# Altium footprint library led.PcbLib: 35 footprints (part 2 of 3)
Each footprint in its own frame and in the unit in brackets; x right, y up, seen from the top. Pads: shape width x height; smd on the part's side, far side on the other; paste and mask are expansions set on the pad; w line width, h text height; cw(c..) or ccw(c..) is an arc to the next point about the centre after c.
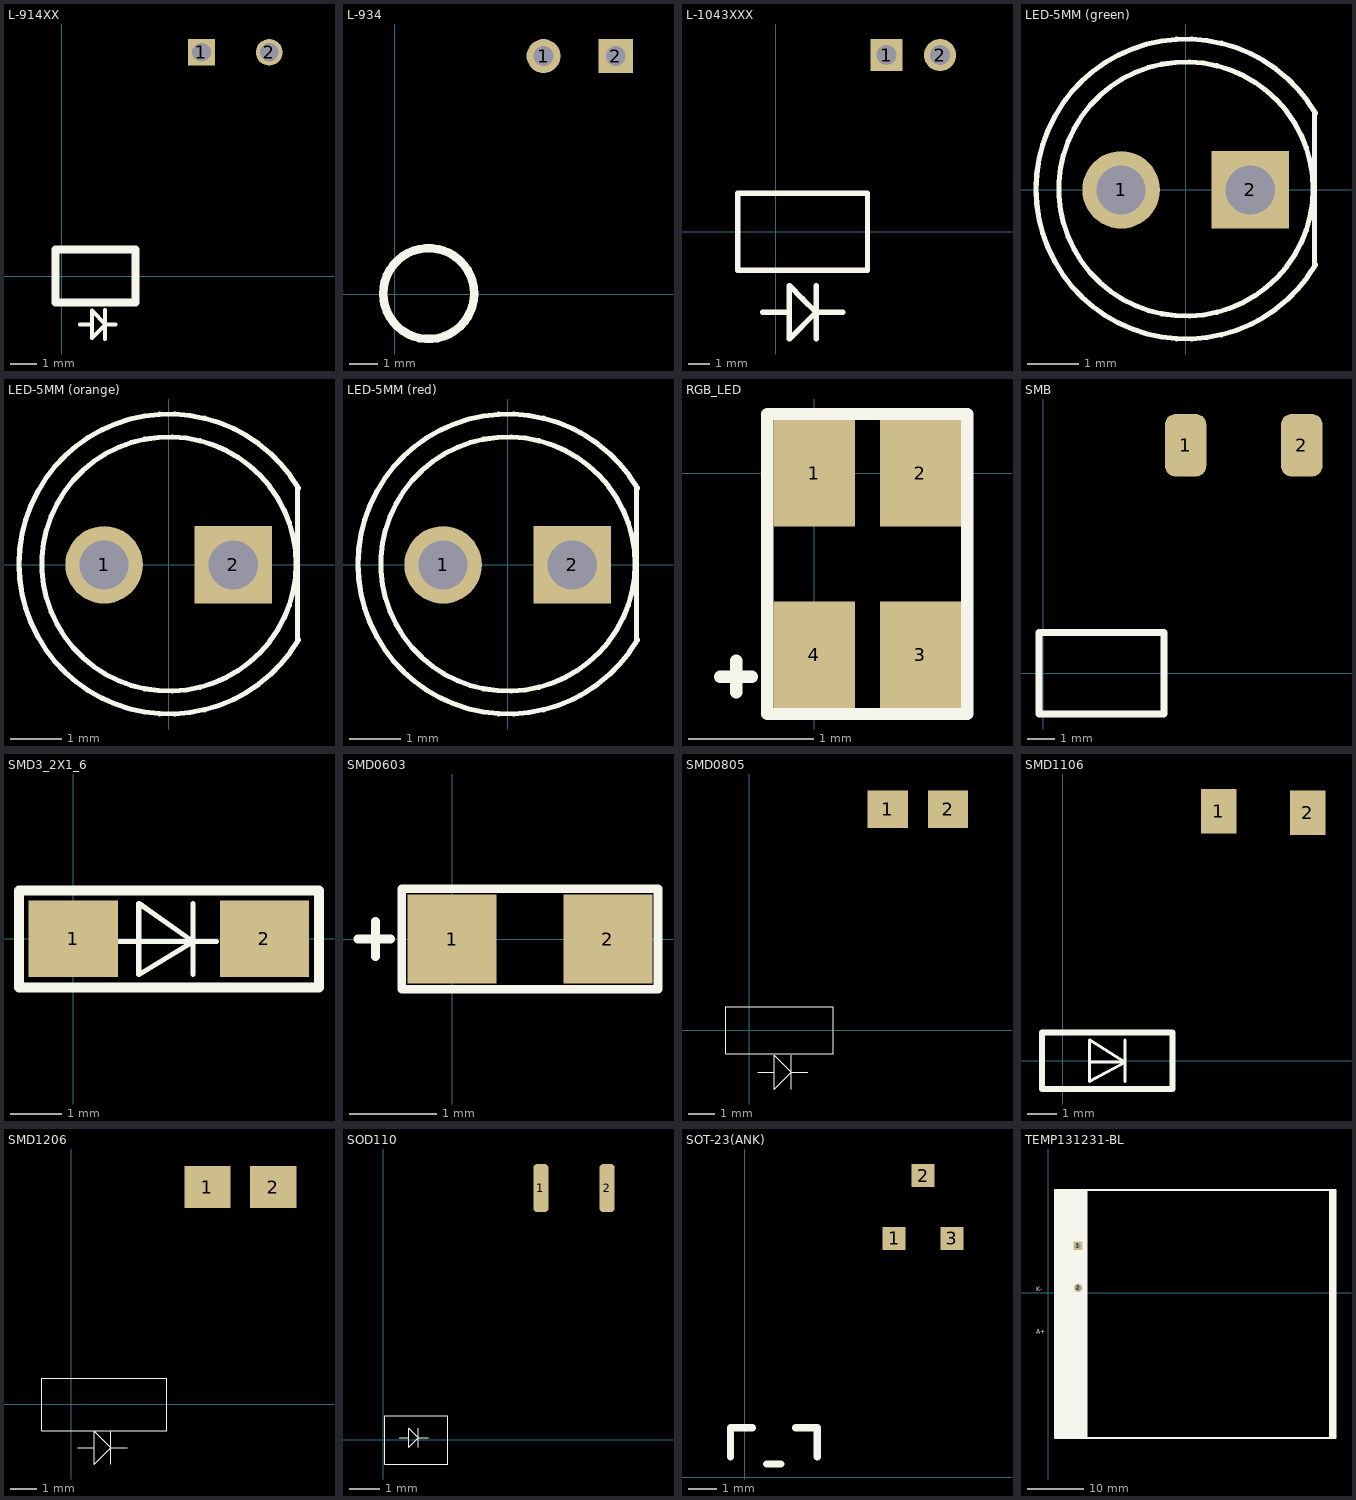
[diagram p1: the footprints below, top view; thin cyan lines are the x and y axes]

## L-914XX [mm]
pads (2):
  rect 1x1 hole 0.7: 1(5.244,8.384)
  round 1 hole 0.7: 2(7.784,8.384)
Top Overlay:
  lines w0.15: 0.69,-1.81 1.14,-1.81 ; 1.62,-2.36 1.62,-1.28 ; 2.02,-1.82 1.645,-1.82 ; 1.14,-1.81 1.14,-1.3 1.645,-1.82 ; 1.14,-1.81 1.14,-2.32 1.645,-1.82
  lines w0.3: 1.27,-1 2.77,-1 ; 2.77,-1 2.77,1 -0.23,1 -0.23,-1 2.77,-1

## L-934 [mm]
height 0.132
pads (2):
  round 1.2 hole 0.7: 1(5.244,8.384)
  rect 1.2x1.2 hole 0.7: 2(7.784,8.384)
Top Overlay:
  circle w0.3: c1.2,0.025 r1.6
3D body "LED-3mm_L-934NT_orange.SLDPRT": height 5.4, standoff -1.7, extent -0.31,-1.629 2.89,1.569

## L-1043XXX [mil]
pads (2):
  rect 60x60 hole 38: 1(206.44,330.06)
  round 60 hole 38: 2(306.44,330.06)
Top Overlay:
  lines w10: -25,-150 25,-150 ; 75,-200 75,-100 ; 125,-150 75,-150 ; 25,-150 25,-100 50,-125 75,-150 ; 25,-150 25,-200 75,-150 ; -71.06,-71.85 -71.06,71.85 171.06,71.85 171.06,-71.85 -71.06,-71.85

## LED-5MM (green) [mil]
pads (2):
  round 60 hole 38: 1(-50,0)
  rect 60x60 hole 38: 2(50,0)
Top Overlay:
  circle w3.94: c0.25,0.65 r98.43
  lines w3.94: 99.86,-58.41 99.86,59.7 ; 100.63,-57.78 cw(c0.25,0.65) 100.63,59.07
3D body "SW3dPS-LEDd5G(Green).STEP": height 484.51, standoff -97.93, extent -117.31,-118.49 96.08,118.5

## LED-5MM (orange) [mil]
pads (2):
  round 60 hole 38: 1(-50,0)
  rect 60x60 hole 38: 2(50,0)
Top Overlay:
  circle w3.94: c0.25,0.65 r98.43
  lines w3.94: 99.86,-58.41 99.86,59.7 ; 100.63,-57.78 cw(c0.25,0.65) 100.63,59.07
3D body "SW3dPS-LEDd5O(Orange).STEP": height 484.51, standoff -97.93, extent -117.31,-118.49 96.08,118.5

## LED-5MM (red) [mil]
pads (2):
  round 60 hole 38: 1(-50,0)
  rect 60x60 hole 38: 2(50,0)
Top Overlay:
  circle w3.94: c0.25,0.65 r98.43
  lines w3.94: 99.86,-58.41 99.86,59.7 ; 100.63,-57.78 cw(c0.25,0.65) 100.63,59.07
3D body "SW3dPS-LEDd5R(Red).STEP": height 484.51, standoff -97.93, extent -117.31,-118.49 96.08,118.5

## RGB_LED [mm]
pads (4):
  rect 0.65x0.85 smd: 1(0,0) 2(0.85,0) 3(0.85,-1.45) 4(0,-1.45)
Top Overlay:
  lines w0.1: -0.75,-1.625 -0.5,-1.625 ; -0.625,-1.75 -0.625,-1.5 ; -0.375,-1.925 -0.375,0.475 1.225,0.475 1.225,-1.925 -0.375,-1.925
3D body "LTST-C19HE1WT.STEP": height 0.34, standoff -0.01, extent -0.325,-1.525 1.175,0.075

## SMB [mm]
pads (2):
  rrect50% 1.52x2.3 smd: 1(5.244,8.384) 2(9.514,8.384)
Top Overlay:
  lines w0.254: -0.15,-1.5 4.45,-1.5 4.45,1.5 -0.15,1.5 -0.15,-1.5

## SMD3_2X1_6 [mm]
pads (2):
  rect 1.75x1.5 smd: 1(0,0) 2(3.75,0)
Top Overlay:
  lines w0.1: 0.906,-0.054 2.806,-0.054 ; 2.346,-0.704 2.346,0.696 ; 1.286,-0.704 1.286,0.696 2.346,-0.054 1.286,-0.704
  lines w0.2: 4.796,-0.954 -1.064,-0.954 -1.064,0.946 4.796,0.946 ; 4.821,-0.954 4.821,-0.479 4.821,0.471 4.821,0.946
3D body "User Library-LED_KPTD-3216 Green.step": height 1.8, standoff 0, extent 0.275,-0.8 3.475,0.8

## SMD0603 [mil]
pads (2):
  rect 40x40 smd: 1(0,0) 2(70,0)
Top Overlay:
  lines w3.94: -42.32,0 -27.56,0 ; -34.45,-7.87 -34.45,7.87 ; -22.64,-22.64 92.52,-22.64 92.52,22.64 -22.64,22.64 -22.64,-22.64
3D body "User Library-LED_0603_WS.STEP": height 23.62, standoff -0.08, extent 2.95,-15.75 65.95,15.74

## SMD0805 [mil]
pads (2):
  rect 60x56 smd: 1(206.44,330.06) 2(296.44,330.06)
Top Overlay:
  lines w0.98: 12.5,-62.5 37.5,-62.5 ; 37.5,-87.5 37.5,-37.5
  lines w1: 37.5,-87.5 62.5,-62.5 ; 37.5,-37.5 62.5,-62.5 ; 62.5,-87.5 62.5,-37.5 ; 87.5,-62.5 62.5,-62.5 ; -35,-35 -35,30 -35,35 125,35 125,-30 125,-35 -35,-35

## SMD1106 [mm]
pads (2):
  rect 1.2x1.5 smd: 1(5.244,8.384) 2(8.244,8.334)
Top Overlay:
  lines w0.1: 0.9,-0.05 2.1,-0.05 ; 2.1,-0.7 2.1,0.7 ; 2.1,-0.05 0.9,-0.7 0.9,0.7 2.1,-0.05
  lines w0.2: -0.7,-0.95 -0.7,0.95 3.7,0.95 3.7,-0.95 -0.7,-0.95

## SMD1206 [mil]
pads (2):
  rect 70x64 smd: 1(206.44,330.06) 2(306.44,330.06)
Top Overlay:
  lines w0.98: 9.59,-65.45 34.59,-65.45 ; 34.59,-90.45 34.59,-40.45
  lines w1: 34.59,-90.45 59.59,-65.45 ; 34.59,-40.45 59.59,-65.45 ; 59.59,-90.45 59.59,-40.45 ; 84.59,-65.45 59.59,-65.45 ; -45,-40 -45,40 145,40 145,-40 -45,-40

## SOD110 [mm]
pads (2):
  rrect50% 0.5x1.6 smd: 1(5.244,8.384) 2(7.444,8.384)
Top Overlay:
  lines w0.025: 0.534,0.068 0.851,0.068 ; 1.168,-0.249 1.168,0.385 ; 1.485,0.068 1.168,0.068 ; 1.168,0.068 0.851,-0.249 0.851,0.385 1.168,0.068 ; 0.05,-0.8 2.15,-0.8 2.15,0.8 0.05,0.8 0.05,-0.8

## SOT-23(ANK) [mil]
pads (3):
  rect 32x32 smd: 1(206.44,330.06) 2(246.44,417.06) 3(286.44,330.06)
Top Overlay:
  lines w10: -20,28 -20,68 10,68 ; 30,18 50,18 ; 70,68 100,68 100,28

## TEMP131231-BL [mil]
pads (2):
  rect 60x60 hole 38: 1(206.44,330.06)
  round 60 hole 38: 2(206.83,34.39)
Top Overlay:
  drawing of 265 lines, arcs and shapes, not listed
  text "A+" at -86.87,-283.58 h31.08
  text "K-" at -86.87,10.22 h31.08